# Altium footprint library MY.PcbLib: 177 footprints (part 4 of 12)
Each footprint in its own frame and in the unit in brackets; x right, y up, seen from the top. Pads: shape width x height; smd on the part's side, far side on the other; paste and mask are expansions set on the pad; w line width, h text height; cw(c..) or ccw(c..) is an arc to the next point about the centre after c.
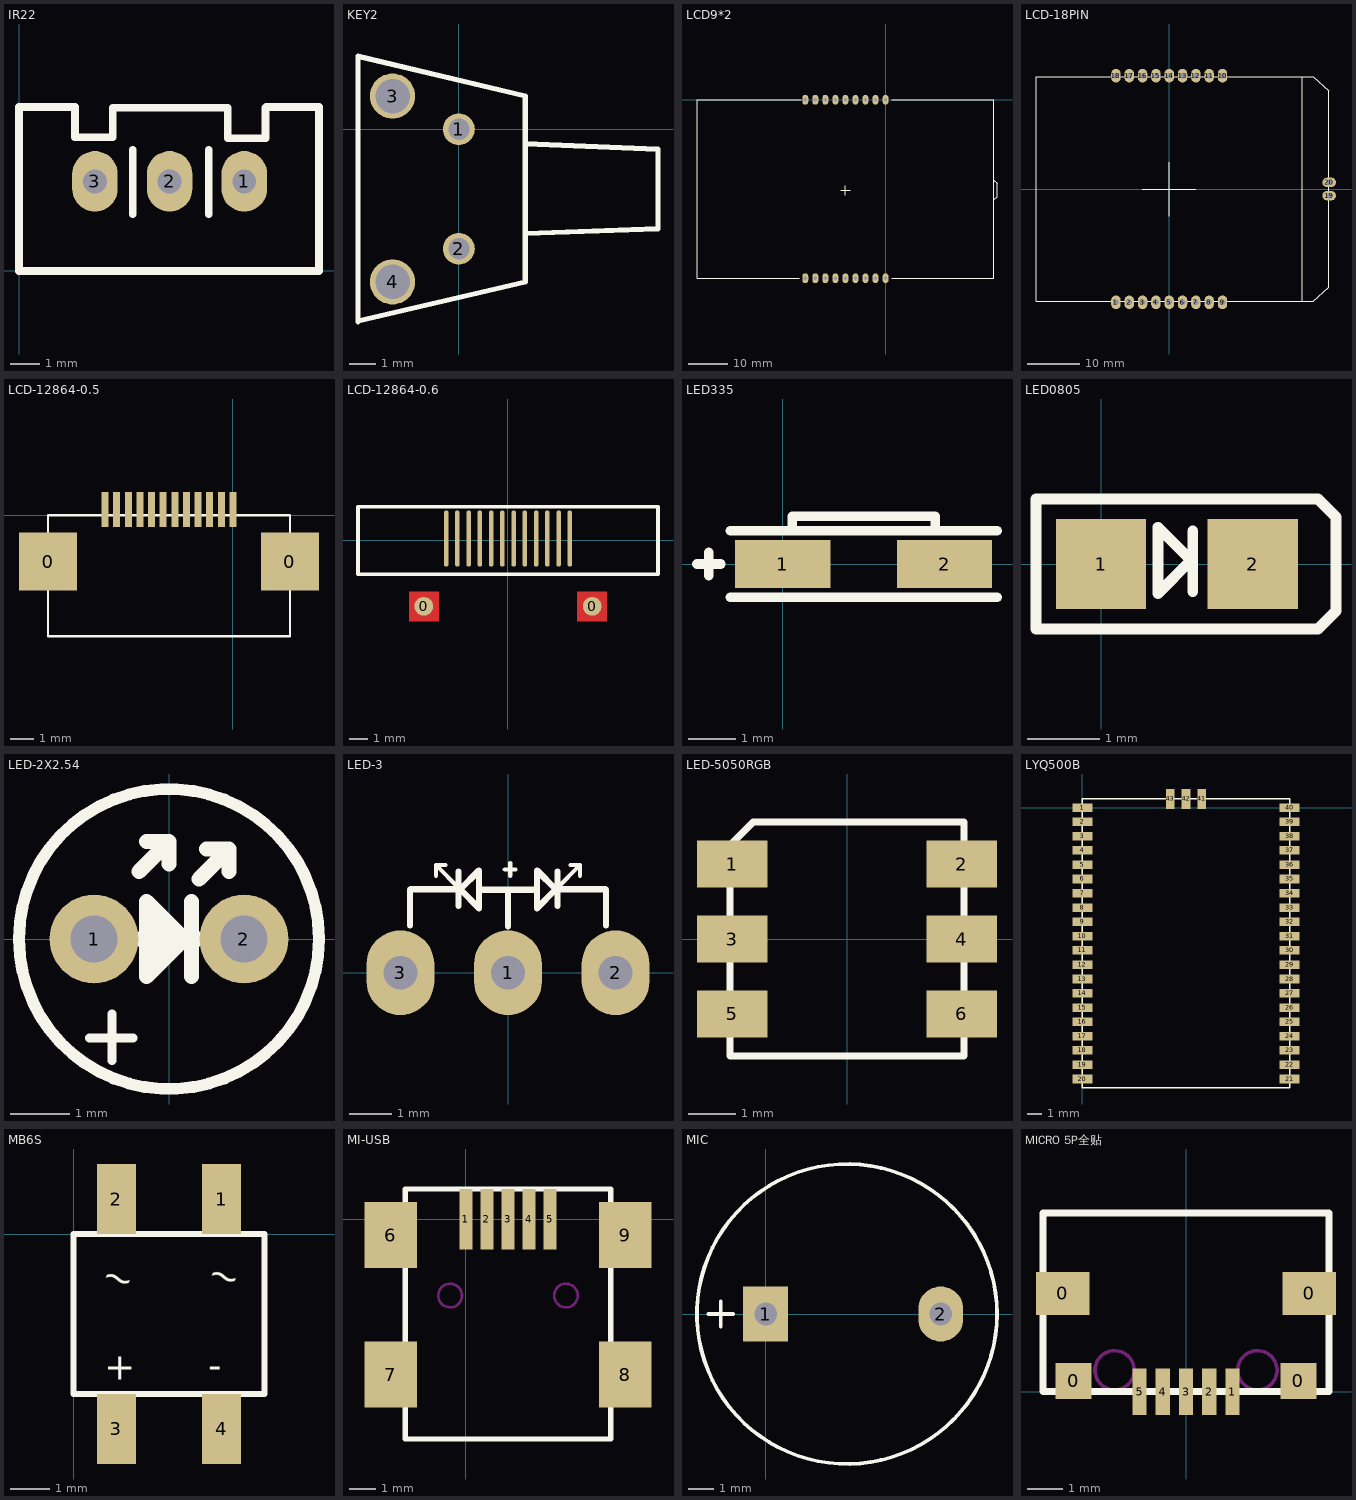
[diagram p3: the footprints below, top view; thin cyan lines are the x and y axes]

## IR22 [mm]
pads (3):
  oval 1.524x2.032 hole 0.8: 1(7.545,3) 2(5.045,3) 3(2.545,3)
Top Overlay:
  lines w0.254: 3.81,1.905 3.81,4.064 ; 6.35,1.905 6.35,4.064 ; 8.255,5.461 8.255,4.445 6.985,4.445 6.985,5.461 3.146,5.461 3.146,4.474 1.876,4.474 1.876,5.49 0,5.49 0,0 10.047,0 10.047,5.49 8.284,5.49

## KEY2 [mm]
pads (4):
  round 1.2 hole 0.8: 1(0,0) 2(0,-4.5)
  round 1.7 hole 1.3: 3(-2.5,1.25) 4(-2.5,-5.75)
Top Overlay:
  lines w0.2: -3.8,-7.25 -3.8,2.75 2.5,1.25 2.5,-5.75 -3.8,-7.225 ; 2.5,-3.925 7.5,-3.75 7.5,-0.75 2.5,-0.55

## LCD9*2 [mm]
pads (18):
  oval 1.5x2.5 hole 0.8: 1(0,0) 2(-2.54,0) 3(-5.08,0) 4(-7.62,0) 5(-10.16,0) 6(-12.7,0) 7(-15.24,0) 8(-17.78,0) 9(-20.32,0) 10(-20.32,-45.212) 11(-17.78,-45.212) 12(-15.24,-45.212) 13(-12.7,-45.212) 14(-10.16,-45.212) 15(-7.62,-45.212) 16(-5.08,-45.212) 17(-2.54,-45.212) 18(0,-45.212)
Top Overlay:
  lines w0.2: -21.844,-45.212 -47.752,-45.212 -47.752,0 -21.336,0 ; -11.335,-22.86 -8.935,-22.86 ; -10.16,-24.185 -10.16,-21.81 ; 1.524,-45.212 27.432,-45.212 27.432,0 1.524,0 ; 27.44,-25.36 28.24,-24.56 28.24,-21.185 27.44,-20.385

## LCD-18PIN [mm]
pads (20):
  oval 1.8x2.6 / inner oval 1.8x2.9 / far side oval 1.8x2.6 hole 1.1: 1(-10.16,-21.6) 2(-7.62,-21.6) 3(-5.08,-21.6) 4(-2.54,-21.6) 5(0,-21.6) 6(2.54,-21.6) 7(5.08,-21.6) 8(7.62,-21.6) 9(10.16,-21.6) 10(10.16,21.6) 11(7.62,21.6) 12(5.08,21.6) 13(2.54,21.6) 14(0,21.6) 15(-2.54,21.6) 16(-5.08,21.6) 17(-7.62,21.6) 18(-10.16,21.6)
  oval 2.6x1.8 hole 1.1: 19(30.5,-1.27) 20(30.5,1.27)
Top Overlay:
  lines w0.1: -5.1,0 5.1,0 ; 0,-5.2 0,5.1 ; 25.4,-21.4 27.5,-21.4 30.4,-18.7 30.4,18.7 27.5,21.4 25.4,21.4 ; 25.4,-21.4 -25.4,-21.4 -25.4,21.4 25.4,21.4 ; 25.4,-21.4 25.4,21.4

## LCD-12864-0.5 [mm]
pads (14):
  rect 2.5x2.5 smd: 0(-7.95,-2) 0(2.45,-2)
  rect 0.3x1.5 smd: 1(0,0.25) 2(-0.5,0.25) 3(-1,0.25) 4(-1.5,0.25) 5(-2,0.25) 6(-2.5,0.25) 7(-3,0.25) 8(-3.5,0.25) 9(-4,0.25) 10(-4.5,0.25) 11(-5,0.25) 12(-5.5,0.25)
Top Overlay:
  lines w0.1: -7.95,-5.2 -7.95,0 2.45,0 2.45,-5.2 -7.95,-5.2

## LCD-12864-0.6 [mm]
pads (14):
  round 1 smd: 0(-4.492,-3.514) 0(4.488,-3.514)
  oval 0.25x3 smd: 1(3.3,0.1) 2(2.7,0.1) 3(2.1,0.1) 4(1.5,0.1) 5(0.9,0.1) 6(0.3,0.1) 7(-0.3,0.1) 8(-0.9,0.1) 9(-1.5,0.1) 10(-2.1,0.1) 11(-2.7,0.1) 12(-3.3,0.1)
Top Layer:
  rectangle: -5.292,-4.314 -3.692,-2.714
  rectangle: 3.688,-4.314 5.288,-2.714
Top Overlay:
  lines w0.2: -8,-1.8 8,-1.8 8,1.8 -8,1.8 -8,-1.8

## LED335 [mm]
pads (2):
  rect 2x1 smd: 1(0,0) 2(3.4,0)
Top Overlay:
  lines w0.2: -1.8,0 -1.3,0 ; -1.55,-0.25 -1.55,0.25 ; -1.1,-0.7 4.5,-0.7 ; -1.1,0.7 4.5,0.7 ; 0.2,0.7 0.2,1 3.2,1 3.2,0.7

## LED0805 [mm]
pads (2):
  rect 1.25x1.25 smd: 1(0,0) 2(2.1,0)
Top Overlay:
  lines w0.15: 1.27,-0.381 1.27,0.457 ; -0.9,-0.9 -0.9,0.9 3,0.9 3.251,0.649 3.251,-0.649 3,-0.9 -0.9,-0.9 ; 0.787,-0.406 0.787,0.508 1.245,0.051 0.787,-0.406

## LED-2X2.54 [mm]
pads (2):
  round 1.5 hole 0.8: 1(-1.27,0) 2(1.27,0)
Top Overlay:
  circle w0.2: c0,0 r2.54
  lines w0.15: -1.346,-1.676 -0.61,-1.676 ; -0.965,-2.057 -0.965,-1.27
  lines w0.254: -0.635,0 0.635,0 ; -0.508,1.143 0,1.651 ; -0.381,0.254 -0.127,0.254 0.127,0 0,0 -0.254,-0.254 ; -0.381,1.651 0,1.651 ; 0,1.27 0,1.651 ; 0.381,-0.635 0.381,0.635 ; 0.508,1.016 1.016,1.524 ; 0.635,1.524 1.016,1.524 ; 1.016,1.143 1.016,1.524 ; -0.381,-0.635 -0.381,0.635 0.254,0 -0.381,-0.635

## LED-3 [mm]
pads (3):
  oval 1.6x2 hole 0.8: 1(0,0) 2(2.54,0) 3(-2.54,0)
Top Overlay:
  lines w0.1: -1.702,2.286 -1.702,2.54 ; -1.473,2.54 -1.702,2.54 ; -1.13,1.968 -1.702,2.54 ; -0.076,2.438 0.178,2.438 ; 0.051,2.286 0.051,2.591 ; 1.13,1.968 1.702,2.54 ; 1.473,2.54 1.702,2.54 ; 1.702,2.286 1.702,2.54
  lines w0.15: -2.311,1.118 -2.311,1.956 -2.299,1.968 -1.13,1.968 ; -1.168,1.575 -1.168,2.388 ; -0.635,1.956 0,1.956 ; 0.559,1.956 0,1.956 ; 0.635,1.956 0,1.956 ; 1.168,1.575 1.168,2.388 ; 2.311,1.118 2.311,1.956 2.299,1.968 1.13,1.968 ; -1.13,1.968 -0.686,1.524 -0.686,2.413 -1.13,1.968 ; 0,1.956 0,1.092 0,1.956 ; 1.13,1.968 0.686,2.413 0.686,1.524 1.13,1.968

## LED-5050RGB [mm]
pads (6):
  rect 1.5x1 smd: 1(-2.45,1.6) 2(2.45,1.6) 3(-2.45,0) 4(2.45,0) 5(-2.45,-1.6) 6(2.45,-1.6)
Top Overlay:
  lines w0.15: -2.5,-2.5 -2.5,2 -2,2.5 2.5,2.5 2.5,-2.5 -2.5,-2.5

## LYQ500B [mm]
pads (43):
  rect 1.4x0.6 smd: 1(0,0) 2(0,-1) 3(0,-2) 4(0,-3) 5(0,-4) 6(0,-5) 7(0,-6) 8(0,-7) 9(0,-8) 10(0,-9) 11(0,-10) 12(0,-11) 13(0,-12) 14(0,-13) 15(0,-14) 16(0,-15) 17(0,-16) 18(0,-17) 19(0,-18) 20(0,-19) 21(14.5,-19) 22(14.5,-18) 23(14.5,-17) 24(14.5,-16) 25(14.5,-15) 26(14.5,-14) 27(14.5,-13) 28(14.5,-12) 29(14.5,-11) 30(14.5,-10) 31(14.5,-9) 32(14.5,-8) 33(14.5,-7) 34(14.5,-6) 35(14.5,-5) 36(14.5,-4) 37(14.5,-3) 38(14.5,-2) 39(14.5,-1) 40(14.5,0)
  rect 0.6x1.4 smd: 41(8.35,0.6) 42(7.25,0.6) 43(6.15,0.6)
Top Overlay:
  lines w0.1: 0,-19.6 14.5,-19.6 14.5,0.6 0,0.6 0,-19.6

## MB6S [mm]
pads (4):
  rect 1x1.8 smd: 1(3.8,0.9) 2(1.1,0.9) 3(1.1,-5) 4(3.8,-5)
Top Overlay:
  lines w0.15: 0,-4.1 4.9,-4.1 4.9,0 0,0 0,-4.1
  text "~" at 0.66,-1.295 h0.7
  text "~" at 3.378,-1.245 h0.7
  text "+" at 0.787,-3.734 h0.7
  text "-" at 3.454,-3.708 h0.7

## MI-USB [mm]
pads (9):
  rect 0.5x2.3 smd: 1(0,0) 2(0.8,0) 3(1.6,0) 4(2.4,0) 5(3.2,0)
  rect 2x2.5 smd: 6(-2.85,-0.6) 7(-2.85,-5.9) 8(6.05,-5.9) 9(6.05,-0.6)
Top Overlay:
  lines w0.2: -2.3,-8.35 -2.3,1.15 5.5,1.15 5.5,-8.35 1.6,-8.35 -2.3,-8.35
Keep-Out Layer:
  circle w0.1: c-0.6,-2.9 r0.45
  circle w0.1: c3.8,-2.9 r0.45

## MIC [mm]
pads (2):
  rect 1.8x2.2 hole 0.9: 1(0,0)
  oval 1.8x2.2 hole 0.9: 2(7,0)
Top Overlay:
  circle w0.15: c3.25,0 r6
  lines w0.15: -2.3,0 -1.3,0 ; -1.8,-0.5 -1.8,0.5

## MICRO 5P全贴 [mm]
pads (9):
  rect 1.5x1.2 smd: 0(-3.45,2.75) 0(3.45,2.75)
  rect 1x1 smd: 0(-3.15,0.3) 0(3.15,0.3)
  rect 0.4x1.3 smd: 1(1.3,0) 2(0.65,0) 3(0,0) 4(-0.65,0) 5(-1.3,0)
Top Overlay:
  lines w0.2: -4,0 -4,5 4,5 4,0 -4,0
Keep-Out Layer:
  circle w0.1: c2,0.6 r0.55
  circle w0.1: c-2,0.6 r0.55